# Altium schematic symbol library 7seg.SchLib: 1 symbol
Pins are listed as number, name and electrical type; pins without a type are passive.

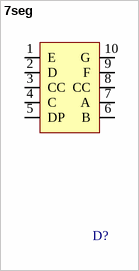
[diagram p0: symbol 7seg]

## 7seg
designator D?  (value not drawn)
footprint LED_LTD-4708G
pins: 1 E, 2 D, 3 CC, 4 C, 5 DP, 6 B, 7 A, 8 CC, 9 F, 10 G